# Altium schematic symbol library Regulator.SchLib: 1 symbol
Pins are listed as number, name and electrical type; pins without a type are passive.

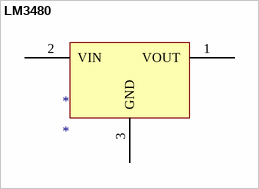
[diagram p0: symbol LM3480]

## LM3480
designator *
footprint LM3480 (SOT23, 3-Leads, Body 2.92x2.37mm, Pitch 0.95mm, IPC Medium Density)
pins: 1 VOUT, 2 VIN, 3 GND